# Altium footprint library XE216-512-TQ128-C20.PcbLib: 3 footprints
Each footprint in its own frame and in the unit in brackets; x right, y up, seen from the top. Pads: shape width x height; smd on the part's side, far side on the other; paste and mask are expansions set on the pad; w line width, h text height; cw(c..) or ccw(c..) is an arc to the next point about the centre after c.
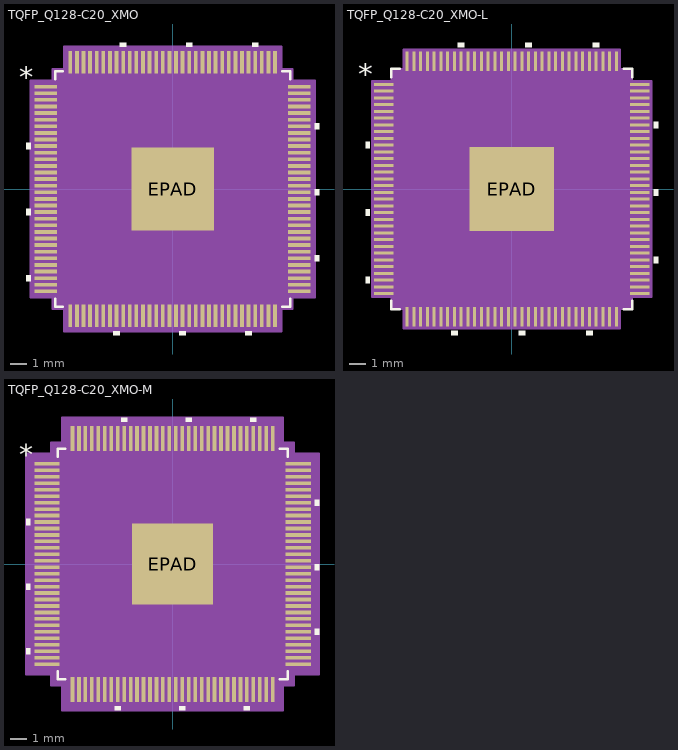
[diagram p0: the footprints below, top view; thin cyan lines are the x and y axes]

## TQFP_Q128-C20_XMO [mil]
pads (129):
  rect 53.5x9 smd paste+0 mask+0: 1(-302.25,244.12) 2(-302.25,228.38) 3(-302.25,212.62) 4(-302.25,196.88) 5(-302.25,181.12) 6(-302.25,165.38) 7(-302.25,149.62) 8(-302.25,133.88) 9(-302.25,118.12) 10(-302.25,102.38) 11(-302.25,86.62) 12(-302.25,70.88) 13(-302.25,55.12) 14(-302.25,39.38) 15(-302.25,23.62) 16(-302.25,7.88) 17(-302.25,-7.88) 18(-302.25,-23.62) 19(-302.25,-39.38) 20(-302.25,-55.12) 21(-302.25,-70.88) 22(-302.25,-86.62) 23(-302.25,-102.38) 24(-302.25,-118.12) 25(-302.25,-133.88) 26(-302.25,-149.62) 27(-302.25,-165.38) 28(-302.25,-181.12) 29(-302.25,-196.88) 30(-302.25,-212.62) 31(-302.25,-228.38) 32(-302.25,-244.12) 65(302.25,-244.12) 66(302.25,-228.38) 67(302.25,-212.62) 68(302.25,-196.88) 69(302.25,-181.12) 70(302.25,-165.38) 71(302.25,-149.62) 72(302.25,-133.88) 73(302.25,-118.12) 74(302.25,-102.38) 75(302.25,-86.62) 76(302.25,-70.88) 77(302.25,-55.12) 78(302.25,-39.38) 79(302.25,-23.62) 80(302.25,-7.88) 81(302.25,7.88) 82(302.25,23.62) 83(302.25,39.38) 84(302.25,55.12) 85(302.25,70.88) 86(302.25,86.62) 87(302.25,102.38) 88(302.25,118.12) 89(302.25,133.88) 90(302.25,149.62) 91(302.25,165.38) 92(302.25,181.12) 93(302.25,196.88) 94(302.25,212.62) 95(302.25,228.38) 96(302.25,244.12)
  rect 9x53.5 smd paste+0 mask+0: 33(-244.12,-302.25) 34(-228.38,-302.25) 35(-212.62,-302.25) 36(-196.88,-302.25) 37(-181.12,-302.25) 38(-165.38,-302.25) 39(-149.62,-302.25) 40(-133.88,-302.25) 41(-118.12,-302.25) 42(-102.38,-302.25) 43(-86.62,-302.25) 44(-70.88,-302.25) 45(-55.12,-302.25) 46(-39.38,-302.25) 47(-23.62,-302.25) 48(-7.88,-302.25) 49(7.88,-302.25) 50(23.62,-302.25) 51(39.38,-302.25) 52(55.12,-302.25) 53(70.88,-302.25) 54(86.62,-302.25) 55(102.38,-302.25) 56(118.12,-302.25) 57(133.88,-302.25) 58(149.62,-302.25) 59(165.38,-302.25) 60(181.12,-302.25) 61(196.88,-302.25) 62(212.62,-302.25) 63(228.38,-302.25) 64(244.12,-302.25) 97(244.12,302.25) 98(228.38,302.25) 99(212.62,302.25) 100(196.88,302.25) 101(181.12,302.25) 102(165.38,302.25) 103(149.62,302.25) 104(133.88,302.25) 105(118.12,302.25) 106(102.38,302.25) 107(86.62,302.25) 108(70.88,302.25) 109(55.12,302.25) 110(39.38,302.25) 111(23.62,302.25) 112(7.88,302.25) 113(-7.88,302.25) 114(-23.62,302.25) 115(-39.38,302.25) 116(-55.12,302.25) 117(-70.88,302.25) 118(-86.62,302.25) 119(-102.38,302.25) 120(-118.12,302.25) 121(-133.88,302.25) 122(-149.62,302.25) 123(-165.38,302.25) 124(-181.12,302.25) 125(-196.88,302.25) 126(-212.62,302.25) 127(-228.38,302.25) 128(-244.12,302.25)
  rect 197x197 smd paste-98 mask+0: EPAD(0,0)
Top Overlay:
  region: -339,109.88 -349,109.88 -349,94.88 -339,94.88
  region: -339,-47.62 -349,-47.62 -349,-62.62 -339,-62.62
  region: -339,-205.12 -349,-205.12 -349,-220.12 -339,-220.12
  region: -126.38,-339 -141.38,-339 -141.38,-349 -126.38,-349
  region: 31.12,-339 16.12,-339 16.12,-349 31.12,-349
  region: 188.62,-339 173.62,-339 173.62,-349 188.62,-349
  region: 339,-157.88 349,-157.88 349,-172.88 339,-172.88
  region: 339,-0.38 349,-0.38 349,-15.38 339,-15.38
  region: 339,157.12 349,157.12 349,142.12 339,142.12
  region: 204.38,339 189.38,339 189.38,349 204.38,349
  region: 46.88,339 31.88,339 31.88,349 46.88,349
  region: -110.62,339 -125.62,339 -125.62,349 -110.62,349
  lines w6: -280.5,-261.73 -280.5,-280.5 -261.73,-280.5 ; -280.5,261.73 -280.5,280.5 -261.73,280.5 ; 261.73,-280.5 280.5,-280.5 280.5,-261.73 ; 261.73,280.5 280.5,280.5 280.5,261.73
  text "*" at -366.5,242 h50
Top Paste:
  region: -36.77,94.56 -94.56,94.56 -94.56,36.77 -36.77,36.77
  region: -36.77,28.9 -94.56,28.9 -94.56,-28.9 -36.77,-28.9
  region: -36.77,-36.77 -94.56,-36.77 -94.56,-94.56 -36.77,-94.56
  region: 28.9,94.56 -28.9,94.56 -28.9,36.77 28.9,36.77
  region: 28.9,28.9 -28.9,28.9 -28.9,-28.9 28.9,-28.9
  region: 28.9,-36.77 -28.9,-36.77 -28.9,-94.56 28.9,-94.56
  region: 94.56,94.56 36.77,94.56 36.77,36.77 94.56,36.77
  region: 94.56,28.9 36.77,28.9 36.77,-28.9 94.56,-28.9
  region: 94.56,-36.77 36.77,-36.77 36.77,-94.56 94.56,-94.56
Mechanical 13:
  drawing of 521 lines, arcs and shapes, not listed
  text "*" at -273,227 h50
Mechanical 15:
  region: -258.62,-285.5 -285.5,-285.5 -285.5,-258.62 -339,-258.62 -339,258.62 -285.5,258.62 -285.5,285.5 -258.62,285.5 -258.62,339 258.62,339 258.62,285.5 285.5,285.5 285.5,258.62 339,258.62 339,-258.62 285.5,-258.62 285.5,-285.5 258.62,-285.5 258.62,-339 -258.62,-339
  lines w6: -339,-258.62 -285.5,-258.62 -285.5,-285.5 -258.62,-285.5 -258.62,-339 258.62,-339 258.62,-285.5 285.5,-285.5 285.5,-258.62 339,-258.62 339,258.62 285.5,258.62 285.5,285.5 258.62,285.5 258.62,339 -258.62,339 -258.62,285.5 -285.5,285.5 -285.5,258.62 -339,258.62 -339,-258.62
3D body "TQFP_Q128-C20_XMO.step": height 47.09, standoff -2.01, extent -315,-315 315,315

## TQFP_Q128-C20_XMO-L [mil]
pads (129):
  rect 45.5x7 smd paste+0 mask+0: 1(-298.25,244.12) 2(-298.25,228.38) 3(-298.25,212.62) 4(-298.25,196.88) 5(-298.25,181.12) 6(-298.25,165.38) 7(-298.25,149.62) 8(-298.25,133.88) 9(-298.25,118.12) 10(-298.25,102.38) 11(-298.25,86.62) 12(-298.25,70.88) 13(-298.25,55.12) 14(-298.25,39.38) 15(-298.25,23.62) 16(-298.25,7.88) 17(-298.25,-7.88) 18(-298.25,-23.62) 19(-298.25,-39.38) 20(-298.25,-55.12) 21(-298.25,-70.88) 22(-298.25,-86.62) 23(-298.25,-102.38) 24(-298.25,-118.12) 25(-298.25,-133.88) 26(-298.25,-149.62) 27(-298.25,-165.38) 28(-298.25,-181.12) 29(-298.25,-196.88) 30(-298.25,-212.62) 31(-298.25,-228.38) 32(-298.25,-244.12) 65(298.25,-244.12) 66(298.25,-228.38) 67(298.25,-212.62) 68(298.25,-196.88) 69(298.25,-181.12) 70(298.25,-165.38) 71(298.25,-149.62) 72(298.25,-133.88) 73(298.25,-118.12) 74(298.25,-102.38) 75(298.25,-86.62) 76(298.25,-70.88) 77(298.25,-55.12) 78(298.25,-39.38) 79(298.25,-23.62) 80(298.25,-7.88) 81(298.25,7.88) 82(298.25,23.62) 83(298.25,39.38) 84(298.25,55.12) 85(298.25,70.88) 86(298.25,86.62) 87(298.25,102.38) 88(298.25,118.12) 89(298.25,133.88) 90(298.25,149.62) 91(298.25,165.38) 92(298.25,181.12) 93(298.25,196.88) 94(298.25,212.62) 95(298.25,228.38) 96(298.25,244.12)
  rect 7x45.5 smd paste+0 mask+0: 33(-244.12,-298.25) 34(-228.38,-298.25) 35(-212.62,-298.25) 36(-196.88,-298.25) 37(-181.12,-298.25) 38(-165.38,-298.25) 39(-149.62,-298.25) 40(-133.88,-298.25) 41(-118.12,-298.25) 42(-102.38,-298.25) 43(-86.62,-298.25) 44(-70.88,-298.25) 45(-55.12,-298.25) 46(-39.38,-298.25) 47(-23.62,-298.25) 48(-7.88,-298.25) 49(7.88,-298.25) 50(23.62,-298.25) 51(39.38,-298.25) 52(55.12,-298.25) 53(70.88,-298.25) 54(86.62,-298.25) 55(102.38,-298.25) 56(118.12,-298.25) 57(133.88,-298.25) 58(149.62,-298.25) 59(165.38,-298.25) 60(181.12,-298.25) 61(196.88,-298.25) 62(212.62,-298.25) 63(228.38,-298.25) 64(244.12,-298.25) 97(244.12,298.25) 98(228.38,298.25) 99(212.62,298.25) 100(196.88,298.25) 101(181.12,298.25) 102(165.38,298.25) 103(149.62,298.25) 104(133.88,298.25) 105(118.12,298.25) 106(102.38,298.25) 107(86.62,298.25) 108(70.88,298.25) 109(55.12,298.25) 110(39.38,298.25) 111(23.62,298.25) 112(7.88,298.25) 113(-7.88,298.25) 114(-23.62,298.25) 115(-39.38,298.25) 116(-55.12,298.25) 117(-70.88,298.25) 118(-86.62,298.25) 119(-102.38,298.25) 120(-118.12,298.25) 121(-133.88,298.25) 122(-149.62,298.25) 123(-165.38,298.25) 124(-181.12,298.25) 125(-196.88,298.25) 126(-212.62,298.25) 127(-228.38,298.25) 128(-244.12,298.25)
  rect 197x197 smd paste-98 mask+0: EPAD(0,0)
Top Overlay:
  region: -331,109.88 -341,109.88 -341,94.88 -331,94.88
  region: -331,-47.62 -341,-47.62 -341,-62.62 -331,-62.62
  region: -331,-205.12 -341,-205.12 -341,-220.12 -331,-220.12
  region: -126.38,-331 -141.38,-331 -141.38,-341 -126.38,-341
  region: 31.12,-331 16.12,-331 16.12,-341 31.12,-341
  region: 188.62,-331 173.62,-331 173.62,-341 188.62,-341
  region: 331,-157.88 341,-157.88 341,-172.88 331,-172.88
  region: 331,-0.38 341,-0.38 341,-15.38 331,-15.38
  region: 331,157.12 341,157.12 341,142.12 331,142.12
  region: 204.38,331 189.38,331 189.38,341 204.38,341
  region: 46.88,331 31.88,331 31.88,341 46.88,341
  region: -110.62,331 -125.62,331 -125.62,341 -110.62,341
  lines w6: -280.5,-260.73 -280.5,-280.5 -260.73,-280.5 ; -280.5,260.73 -280.5,280.5 -260.73,280.5 ; 260.73,-280.5 280.5,-280.5 280.5,-260.73 ; 260.73,280.5 280.5,280.5 280.5,260.73
  text "*" at -358.5,242 h50
Top Paste:
  region: -36.77,94.56 -94.56,94.56 -94.56,36.77 -36.77,36.77
  region: -36.77,28.9 -94.56,28.9 -94.56,-28.9 -36.77,-28.9
  region: -36.77,-36.77 -94.56,-36.77 -94.56,-94.56 -36.77,-94.56
  region: 28.9,94.56 -28.9,94.56 -28.9,36.77 28.9,36.77
  region: 28.9,28.9 -28.9,28.9 -28.9,-28.9 28.9,-28.9
  region: 28.9,-36.77 -28.9,-36.77 -28.9,-94.56 28.9,-94.56
  region: 94.56,94.56 36.77,94.56 36.77,36.77 94.56,36.77
  region: 94.56,28.9 36.77,28.9 36.77,-28.9 94.56,-28.9
  region: 94.56,-36.77 36.77,-36.77 36.77,-94.56 94.56,-94.56
Mechanical 13:
  drawing of 517 lines, arcs and shapes, not listed
  text "*" at -273,227 h50
Mechanical 15:
  region: -251.62,-279.5 -279.5,-279.5 -279.5,-251.62 -325,-251.62 -325,251.62 -279.5,251.62 -279.5,279.5 -251.62,279.5 -251.62,325 251.62,325 251.62,279.5 279.5,279.5 279.5,251.62 325,251.62 325,-251.62 279.5,-251.62 279.5,-279.5 251.62,-279.5 251.62,-325 -251.62,-325
  lines w6: -325,-251.62 -279.5,-251.62 -279.5,-279.5 -251.62,-279.5 -251.62,-325 251.62,-325 251.62,-279.5 279.5,-279.5 279.5,-251.62 325,-251.62 325,251.62 279.5,251.62 279.5,279.5 251.62,279.5 251.62,325 -251.62,325 -251.62,279.5 -279.5,279.5 -279.5,251.62 -325,251.62 -325,-251.62
3D body "TQFP_Q128-C20_XMO.step": height 47.09, standoff -2.01, extent -315,-315 315,315

## TQFP_Q128-C20_XMO-M [mil]
pads (129):
  rect 61.5x9 smd paste+0 mask+0: 1(-306.25,244.12) 2(-306.25,228.38) 3(-306.25,212.62) 4(-306.25,196.88) 5(-306.25,181.12) 6(-306.25,165.38) 7(-306.25,149.62) 8(-306.25,133.88) 9(-306.25,118.12) 10(-306.25,102.38) 11(-306.25,86.62) 12(-306.25,70.88) 13(-306.25,55.12) 14(-306.25,39.38) 15(-306.25,23.62) 16(-306.25,7.88) 17(-306.25,-7.88) 18(-306.25,-23.62) 19(-306.25,-39.38) 20(-306.25,-55.12) 21(-306.25,-70.88) 22(-306.25,-86.62) 23(-306.25,-102.38) 24(-306.25,-118.12) 25(-306.25,-133.88) 26(-306.25,-149.62) 27(-306.25,-165.38) 28(-306.25,-181.12) 29(-306.25,-196.88) 30(-306.25,-212.62) 31(-306.25,-228.38) 32(-306.25,-244.12) 65(306.25,-244.12) 66(306.25,-228.38) 67(306.25,-212.62) 68(306.25,-196.88) 69(306.25,-181.12) 70(306.25,-165.38) 71(306.25,-149.62) 72(306.25,-133.88) 73(306.25,-118.12) 74(306.25,-102.38) 75(306.25,-86.62) 76(306.25,-70.88) 77(306.25,-55.12) 78(306.25,-39.38) 79(306.25,-23.62) 80(306.25,-7.88) 81(306.25,7.88) 82(306.25,23.62) 83(306.25,39.38) 84(306.25,55.12) 85(306.25,70.88) 86(306.25,86.62) 87(306.25,102.38) 88(306.25,118.12) 89(306.25,133.88) 90(306.25,149.62) 91(306.25,165.38) 92(306.25,181.12) 93(306.25,196.88) 94(306.25,212.62) 95(306.25,228.38) 96(306.25,244.12)
  rect 9x61.5 smd paste+0 mask+0: 33(-244.12,-306.25) 34(-228.38,-306.25) 35(-212.62,-306.25) 36(-196.88,-306.25) 37(-181.12,-306.25) 38(-165.38,-306.25) 39(-149.62,-306.25) 40(-133.88,-306.25) 41(-118.12,-306.25) 42(-102.38,-306.25) 43(-86.62,-306.25) 44(-70.88,-306.25) 45(-55.12,-306.25) 46(-39.38,-306.25) 47(-23.62,-306.25) 48(-7.88,-306.25) 49(7.88,-306.25) 50(23.62,-306.25) 51(39.38,-306.25) 52(55.12,-306.25) 53(70.88,-306.25) 54(86.62,-306.25) 55(102.38,-306.25) 56(118.12,-306.25) 57(133.88,-306.25) 58(149.62,-306.25) 59(165.38,-306.25) 60(181.12,-306.25) 61(196.88,-306.25) 62(212.62,-306.25) 63(228.38,-306.25) 64(244.12,-306.25) 97(244.12,306.25) 98(228.38,306.25) 99(212.62,306.25) 100(196.88,306.25) 101(181.12,306.25) 102(165.38,306.25) 103(149.62,306.25) 104(133.88,306.25) 105(118.12,306.25) 106(102.38,306.25) 107(86.62,306.25) 108(70.88,306.25) 109(55.12,306.25) 110(39.38,306.25) 111(23.62,306.25) 112(7.88,306.25) 113(-7.88,306.25) 114(-23.62,306.25) 115(-39.38,306.25) 116(-55.12,306.25) 117(-70.88,306.25) 118(-86.62,306.25) 119(-102.38,306.25) 120(-118.12,306.25) 121(-133.88,306.25) 122(-149.62,306.25) 123(-165.38,306.25) 124(-181.12,306.25) 125(-196.88,306.25) 126(-212.62,306.25) 127(-228.38,306.25) 128(-244.12,306.25)
  rect 197x197 smd paste-98 mask+0: EPAD(0,0)
Top Overlay:
  region: -347,109.88 -357,109.88 -357,94.88 -347,94.88
  region: -347,-47.62 -357,-47.62 -357,-62.62 -347,-62.62
  region: -347,-205.12 -357,-205.12 -357,-220.12 -347,-220.12
  region: -126.38,-347 -141.38,-347 -141.38,-357 -126.38,-357
  region: 31.12,-347 16.12,-347 16.12,-357 31.12,-357
  region: 188.62,-347 173.62,-347 173.62,-357 188.62,-357
  region: 347,-157.88 357,-157.88 357,-172.88 347,-172.88
  region: 347,-0.38 357,-0.38 357,-15.38 347,-15.38
  region: 347,157.12 357,157.12 357,142.12 347,142.12
  region: 204.38,347 189.38,347 189.38,357 204.38,357
  region: 46.88,347 31.88,347 31.88,357 46.88,357
  region: -110.62,347 -125.62,347 -125.62,357 -110.62,357
  lines w6: -280.5,-261.73 -280.5,-280.5 -261.73,-280.5 ; -280.5,261.73 -280.5,280.5 -261.73,280.5 ; 261.73,-280.5 280.5,-280.5 280.5,-261.73 ; 261.73,280.5 280.5,280.5 280.5,261.73
  text "*" at -374.5,242 h50
Top Paste:
  region: -36.77,94.56 -94.56,94.56 -94.56,36.77 -36.77,36.77
  region: -36.77,28.9 -94.56,28.9 -94.56,-28.9 -36.77,-28.9
  region: -36.77,-36.77 -94.56,-36.77 -94.56,-94.56 -36.77,-94.56
  region: 28.9,94.56 -28.9,94.56 -28.9,36.77 28.9,36.77
  region: 28.9,28.9 -28.9,28.9 -28.9,-28.9 28.9,-28.9
  region: 28.9,-36.77 -28.9,-36.77 -28.9,-94.56 28.9,-94.56
  region: 94.56,94.56 36.77,94.56 36.77,36.77 94.56,36.77
  region: 94.56,28.9 36.77,28.9 36.77,-28.9 94.56,-28.9
  region: 94.56,-36.77 36.77,-36.77 36.77,-94.56 94.56,-94.56
Mechanical 13:
  drawing of 517 lines, arcs and shapes, not listed
  text "*" at -273,227 h50
Mechanical 15:
  region: -268.62,-295.5 -295.5,-295.5 -295.5,-268.62 -357,-268.62 -357,268.62 -295.5,268.62 -295.5,295.5 -268.62,295.5 -268.62,357 268.62,357 268.62,295.5 295.5,295.5 295.5,268.62 357,268.62 357,-268.62 295.5,-268.62 295.5,-295.5 268.62,-295.5 268.62,-357 -268.62,-357
  lines w6: -357,-268.62 -295.5,-268.62 -295.5,-295.5 -268.62,-295.5 -268.62,-357 268.62,-357 268.62,-295.5 295.5,-295.5 295.5,-268.62 357,-268.62 357,268.62 295.5,268.62 295.5,295.5 268.62,295.5 268.62,357 -268.62,357 -268.62,295.5 -295.5,295.5 -295.5,268.62 -357,268.62 -357,-268.62
3D body "TQFP_Q128-C20_XMO.step": height 47.09, standoff -2.01, extent -315,-315 315,315